# Altium integrated library NXP_60_26022015.IntLib: 1306 symbols (part 2 of 28)
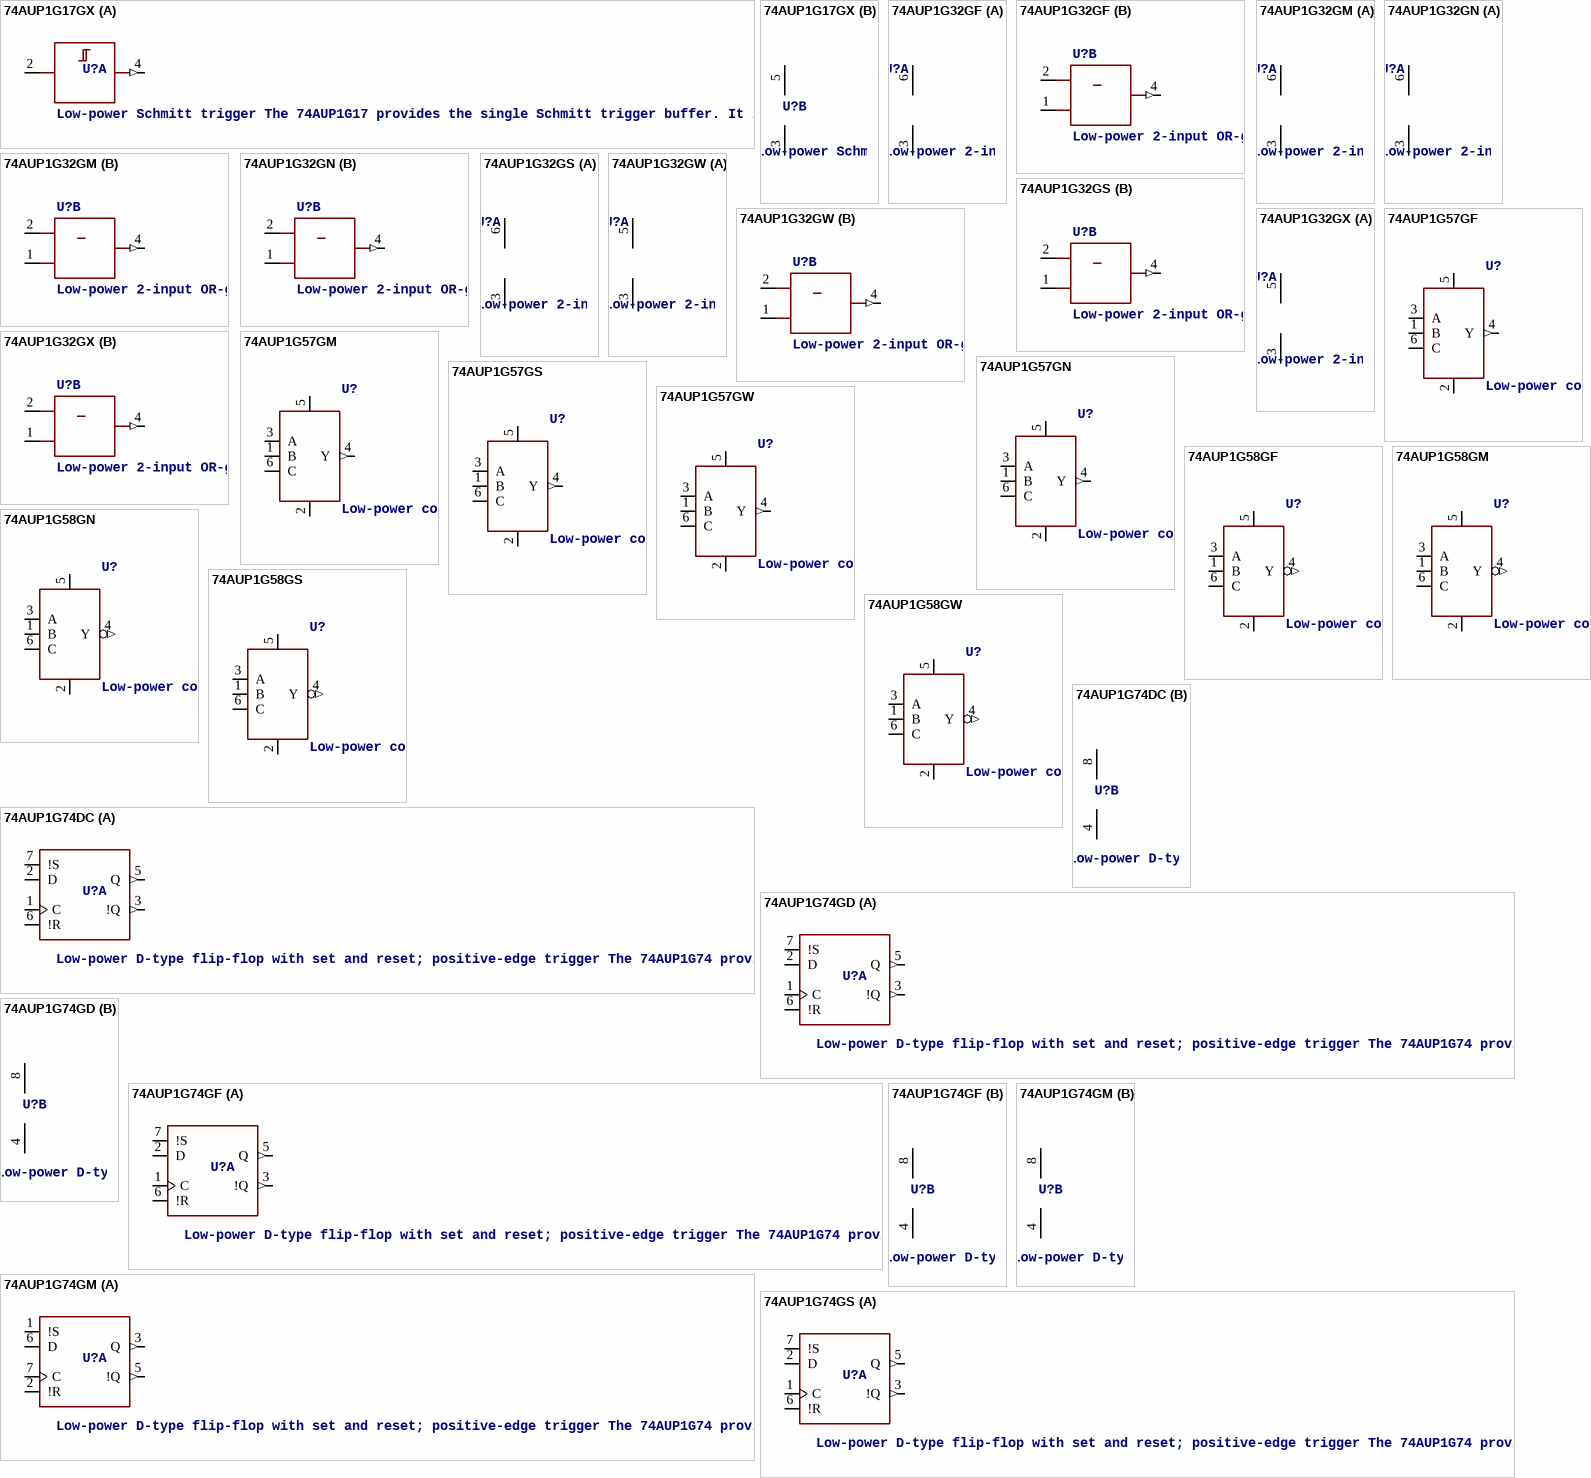
[diagram p186: symbols 74AUP1G17GX to 74AUP1G74GS]

## 74AUP1G57GW
designator U?, comment Low-power configurable gate The 74AUP1G57 provides configurable multiple functions. The output state is determined by eight patterns of 3-bit input. The user can choose the logic functions AND, OR, NAND, NOR, XNOR, inverter, and buffer. All inputs can be connected to VCC or GND. This device ensures a very low static and dynamic power consumption across the entire VCC range from 0.8 V to 3.6 V. This device is fully specified for partial power-down applications using IOFF. The IOFF circuitry disables the output, preventing the damaging backflow current through the device when it is powered down. The 74AUP1G57 has Schmitt trigger inputs making it capable of transforming slowly changing input signals into sharply defined, jitter-free output signals. The inputs switch at different points for positive and negative-going signals. The difference between the positive voltage VT+ and the negative voltage VT- is defined as the input hysteresis voltage VH.   AAL Eindhoven MK
12NC: 9352 799 57125
footprint SOT363
pins: 1 B, 2 GND (power), 3 A, 4 Y (out), 5 VCC (power), 6 C

## 74AUP1G58GF
designator U?, comment Low-power configurable multiple function gate The 74AUP1G58 provides configurable multiple functions. The output state is determined by eight patterns of 3-bit input. The user can choose the logic functions AND, OR, NAND, NOR, XOR, inverter and buffer. All inputs can be connected to VCC or GND. This device ensures a very low static and dynamic power consumption across the entire VCC range from 0.8 V to 3.6 V. This device is fully specified for partial power-down applications using IOFF. The IOFF circuitry disables the output, preventing the damaging backflow current through the device when it is powered down. The 74AUP1G58 has Schmitt trigger inputs making it capable of transforming slowly changing input signals into sharply defined, jitter-free output signals. The inputs switch at different points for positive and negative-going signals. The difference between the positive voltage VT+ and the negative voltage VT- is defined as the input hysteresis voltage VH.   AAL Eindhoven MK
12NC: 9352 813 29132
footprint SOT891
pins: 1 B, 2 GND (power), 3 A, 4 Y (out), 5 VCC (power), 6 C

## 74AUP1G58GM
designator U?, comment Low-power configurable multiple function gate The 74AUP1G58 provides configurable multiple functions. The output state is determined by eight patterns of 3-bit input. The user can choose the logic functions AND, OR, NAND, NOR, XOR, inverter and buffer. All inputs can be connected to VCC or GND. This device ensures a very low static and dynamic power consumption across the entire VCC range from 0.8 V to 3.6 V. This device is fully specified for partial power-down applications using IOFF. The IOFF circuitry disables the output, preventing the damaging backflow current through the device when it is powered down. The 74AUP1G58 has Schmitt trigger inputs making it capable of transforming slowly changing input signals into sharply defined, jitter-free output signals. The inputs switch at different points for positive and negative-going signals. The difference between the positive voltage VT+ and the negative voltage VT- is defined as the input hysteresis voltage VH.   AAL Eindhoven MK
12NC: 9352 799 61132
footprint SOT886
pins: 1 B, 2 GND (power), 3 A, 4 Y (out), 5 VCC (power), 6 C

## 74AUP1G58GN
designator U?, comment Low-power configurable multiple function gate The 74AUP1G58 provides configurable multiple functions. The output state is determined by eight patterns of 3-bit input. The user can choose the logic functions AND, OR, NAND, NOR, XOR, inverter and buffer. All inputs can be connected to VCC or GND. This device ensures a very low static and dynamic power consumption across the entire VCC range from 0.8 V to 3.6 V. This device is fully specified for partial power-down applications using IOFF. The IOFF circuitry disables the output, preventing the damaging backflow current through the device when it is powered down. The 74AUP1G58 has Schmitt trigger inputs making it capable of transforming slowly changing input signals into sharply defined, jitter-free output signals. The inputs switch at different points for positive and negative-going signals. The difference between the positive voltage VT+ and the negative voltage VT- is defined as the input hysteresis voltage VH.   AAL Eindhoven MK
I2C: 9352 917 44132
footprint SOT1115
pins: 1 B, 2 GND (power), 3 A, 4 Y (out), 5 VCC (power), 6 C

## 74AUP1G58GS
designator U?, comment Low-power configurable multiple function gate The 74AUP1G58 provides configurable multiple functions. The output state is determined by eight patterns of 3-bit input. The user can choose the logic functions AND, OR, NAND, NOR, XOR, inverter and buffer. All inputs can be connected to VCC or GND. This device ensures a very low static and dynamic power consumption across the entire VCC range from 0.8 V to 3.6 V. This device is fully specified for partial power-down applications using IOFF. The IOFF circuitry disables the output, preventing the damaging backflow current through the device when it is powered down. The 74AUP1G58 has Schmitt trigger inputs making it capable of transforming slowly changing input signals into sharply defined, jitter-free output signals. The inputs switch at different points for positive and negative-going signals. The difference between the positive voltage VT+ and the negative voltage VT- is defined as the input hysteresis voltage VH.   AAL Eindhoven MK
12NC: 9352 928 68132
footprint SOT1202
pins: 1 B, 2 GND (power), 3 A, 4 Y (out), 5 VCC (power), 6 C

## 74AUP1G58GW
designator U?, comment Low-power configurable multiple function gate The 74AUP1G58 provides configurable multiple functions. The output state is determined by eight patterns of 3-bit input. The user can choose the logic functions AND, OR, NAND, NOR, XOR, inverter and buffer. All inputs can be connected to VCC or GND. This device ensures a very low static and dynamic power consumption across the entire VCC range from 0.8 V to 3.6 V. This device is fully specified for partial power-down applications using IOFF. The IOFF circuitry disables the output, preventing the damaging backflow current through the device when it is powered down. The 74AUP1G58 has Schmitt trigger inputs making it capable of transforming slowly changing input signals into sharply defined, jitter-free output signals. The inputs switch at different points for positive and negative-going signals. The difference between the positive voltage VT+ and the negative voltage VT- is defined as the input hysteresis voltage VH.   AAL Eindhoven MK
12NC: 9352 799 59125
footprint SOT363
pins: 1 B, 2 GND (power), 3 A, 4 Y (out), 5 VCC (power), 6 C

## 74AUP1G74DC
designator U?, comment Low-power D-type flip-flop with set and reset; positive-edge trigger The 74AUP1G74 provides a low-power, low-voltage single positive-edge triggered D-type flip-flop with individual data (D), clock (CP), set (SD) and reset (RD) inputs and complementary Q and Q outputs. The SD and RD are asynchronous active LOW inputs and operate independently of the clock input. Information on the data input is transferred to the Q output on the LOW-to-HIGH transition of the clock pulse. The D input must be stable one set-up time prior to the LOW-to-HIGH clock transition for predictable operation. Schmitt trigger action at all inputs makes the circuit tolerant to slower input rise and fall times across the entire VCC range from 0.8 V to 3.6 V. This device ensures a very low static and dynamic power consumption across the entire VCC range from 0.8 V to 3.6 V. This device is fully specified for partial power-down applications using IOFF. The IOFF circuitry disables the output, preventing the damaging backflow current through the device when it is powered down.    AAL Eindhoven MK
footprint SOT765
part A pins: 1 C, 2 D, 3 !Q (out), 5 Q (out), 6 !R, 7 !S
part B pins: 4 GND (power), 8 VCC (power)

## 74AUP1G74GD
designator U?, comment Low-power D-type flip-flop with set and reset; positive-edge trigger The 74AUP1G74 provides a low-power, low-voltage single positive-edge triggered D-type flip-flop with individual data (D), clock (CP), set (SD) and reset (RD) inputs and complementary Q and Q outputs. The SD and RD are asynchronous active LOW inputs and operate independently of the clock input. Information on the data input is transferred to the Q output on the LOW-to-HIGH transition of the clock pulse. The D input must be stable one set-up time prior to the LOW-to-HIGH clock transition for predictable operation. Schmitt trigger action at all inputs makes the circuit tolerant to slower input rise and fall times across the entire VCC range from 0.8 V to 3.6 V. This device ensures a very low static and dynamic power consumption across the entire VCC range from 0.8 V to 3.6 V. This device is fully specified for partial power-down applications using IOFF. The IOFF circuitry disables the output, preventing the damaging backflow current through the device when it is powered down.    AAL Eindhoven MK
footprint SOT996-2/3
part A pins: 1 C, 2 D, 3 !Q (out), 5 Q (out), 6 !R, 7 !S
part B pins: 4 GND (power), 8 VCC (power)

## 74AUP1G74GF
designator U?, comment Low-power D-type flip-flop with set and reset; positive-edge trigger The 74AUP1G74 provides a low-power, low-voltage single positive-edge triggered D-type flip-flop with individual data (D), clock (CP), set (SD) and reset (RD) inputs and complementary Q and Q outputs. The SD and RD are asynchronous active LOW inputs and operate independently of the clock input. Information on the data input is transferred to the Q output on the LOW-to-HIGH transition of the clock pulse. The D input must be stable one set-up time prior to the LOW-to-HIGH clock transition for predictable operation. Schmitt trigger action at all inputs makes the circuit tolerant to slower input rise and fall times across the entire VCC range from 0.8 V to 3.6 V. This device ensures a very low static and dynamic power consumption across the entire VCC range from 0.8 V to 3.6 V. This device is fully specified for partial power-down applications using IOFF. The IOFF circuitry disables the output, preventing the damaging backflow current through the device when it is powered down.    AAL Eindhoven MK
footprint SOT1089-1
part A pins: 1 C, 2 D, 3 !Q (out), 5 Q (out), 6 !R, 7 !S
part B pins: 4 GND (power), 8 VCC (power)

## 74AUP1G74GM
designator U?, comment Low-power D-type flip-flop with set and reset; positive-edge trigger The 74AUP1G74 provides a low-power, low-voltage single positive-edge triggered D-type flip-flop with individual data (D), clock (CP), set (SD) and reset (RD) inputs and complementary Q and Q outputs. The SD and RD are asynchronous active LOW inputs and operate independently of the clock input. Information on the data input is transferred to the Q output on the LOW-to-HIGH transition of the clock pulse. The D input must be stable one set-up time prior to the LOW-to-HIGH clock transition for predictable operation. Schmitt trigger action at all inputs makes the circuit tolerant to slower input rise and fall times across the entire VCC range from 0.8 V to 3.6 V. This device ensures a very low static and dynamic power consumption across the entire VCC range from 0.8 V to 3.6 V. This device is fully specified for partial power-down applications using IOFF. The IOFF circuitry disables the output, preventing the damaging backflow current through the device when it is powered down.    AAL Eindhoven MK
footprint SOT902-1/2/3
part A pins: 1 !S, 2 !R, 3 Q (out), 5 !Q (out), 6 D, 7 C
part B pins: 4 GND (power), 8 VCC (power)

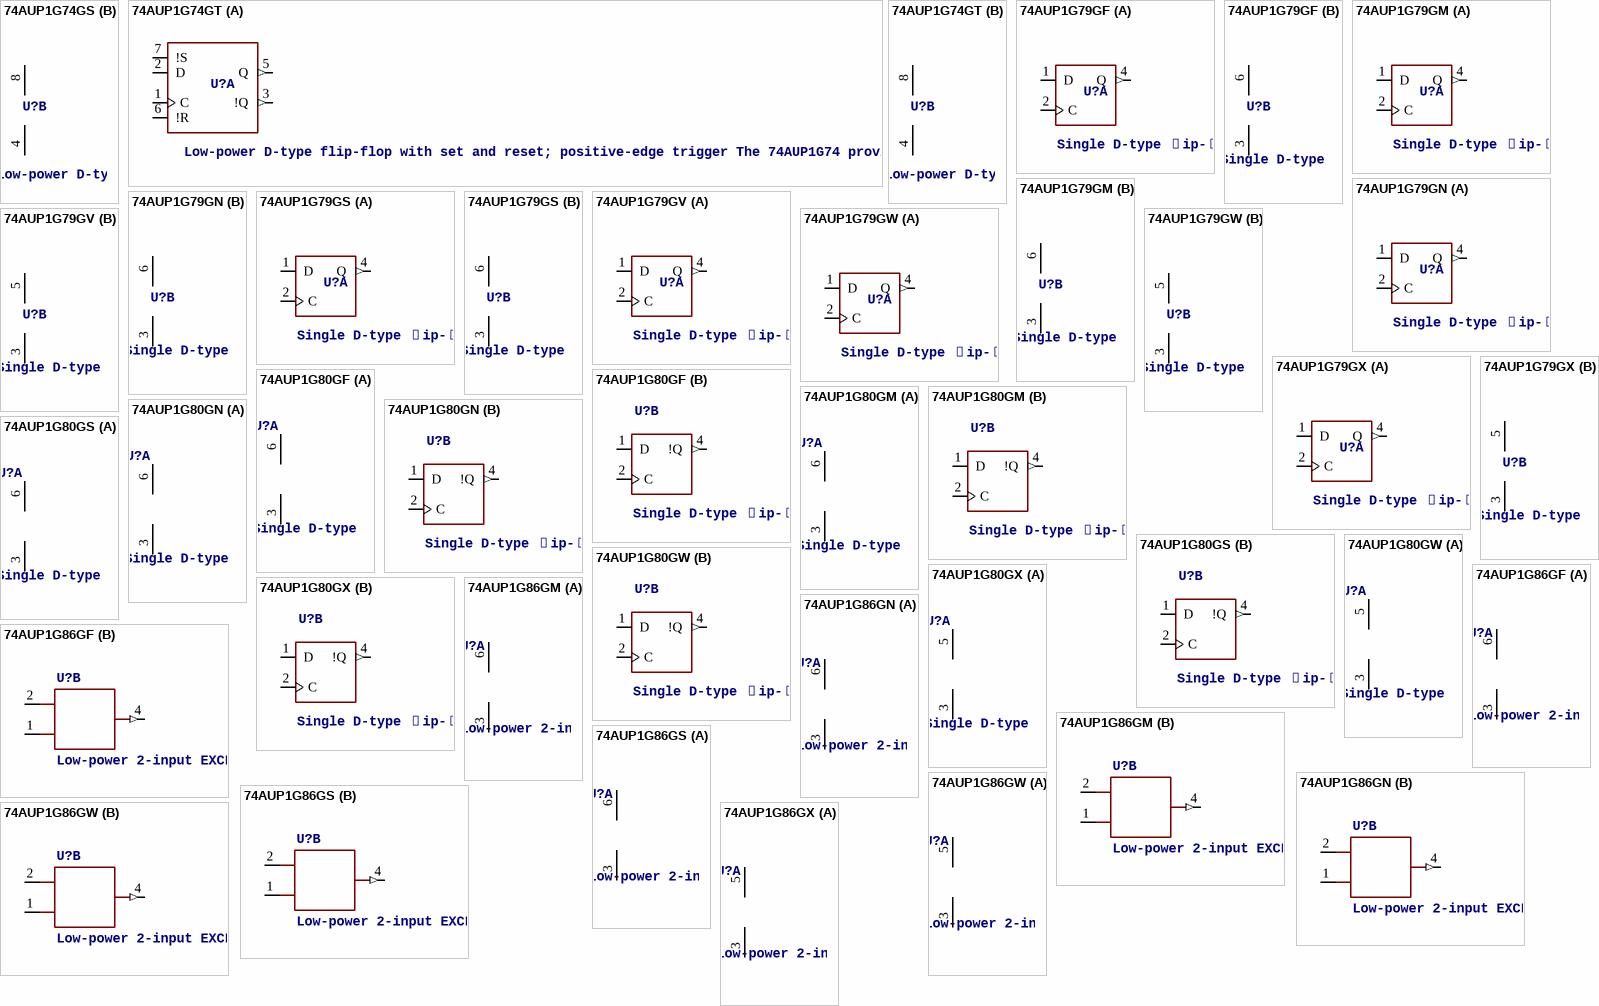
[diagram p7: symbols 74AUP1G74GS to 74AUP1G86GX]

## 74AUP1G74GS
designator U?, comment Low-power D-type flip-flop with set and reset; positive-edge trigger The 74AUP1G74 provides a low-power, low-voltage single positive-edge triggered D-type flip-flop with individual data (D), clock (CP), set (SD) and reset (RD) inputs and complementary Q and Q outputs. The SD and RD are asynchronous active LOW inputs and operate independently of the clock input. Information on the data input is transferred to the Q output on the LOW-to-HIGH transition of the clock pulse. The D input must be stable one set-up time prior to the LOW-to-HIGH clock transition for predictable operation. Schmitt trigger action at all inputs makes the circuit tolerant to slower input rise and fall times across the entire VCC range from 0.8 V to 3.6 V. This device ensures a very low static and dynamic power consumption across the entire VCC range from 0.8 V to 3.6 V. This device is fully specified for partial power-down applications using IOFF. The IOFF circuitry disables the output, preventing the damaging backflow current through the device when it is powered down.    AAL Eindhoven MK
footprint SOT1203
part A pins: 1 C, 2 D, 3 !Q (out), 5 Q (out), 6 !R, 7 !S
part B pins: 4 GND (power), 8 VCC (power)

## 74AUP1G74GT
designator U?, comment Low-power D-type flip-flop with set and reset; positive-edge trigger The 74AUP1G74 provides a low-power, low-voltage single positive-edge triggered D-type flip-flop with individual data (D), clock (CP), set (SD) and reset (RD) inputs and complementary Q and Q outputs. The SD and RD are asynchronous active LOW inputs and operate independently of the clock input. Information on the data input is transferred to the Q output on the LOW-to-HIGH transition of the clock pulse. The D input must be stable one set-up time prior to the LOW-to-HIGH clock transition for predictable operation. Schmitt trigger action at all inputs makes the circuit tolerant to slower input rise and fall times across the entire VCC range from 0.8 V to 3.6 V. This device ensures a very low static and dynamic power consumption across the entire VCC range from 0.8 V to 3.6 V. This device is fully specified for partial power-down applications using IOFF. The IOFF circuitry disables the output, preventing the damaging backflow current through the device when it is powered down.    AAL Eindhoven MK
footprint SOT833-1
part A pins: 1 C, 2 D, 3 !Q (out), 5 Q (out), 6 !R, 7 !S
part B pins: 4 GND (power), 8 VCC (power)

## 74AUP1G79GF
designator U?, comment Single D-type ﬂip-ﬂop; positive-edge trigger The 74AUP1G79 provides the single positive-edge triggered D-type flip-flop. Information on the data input is transferred to the Q output on the LOW-to-HIGH transition of the clock pulse. The D input must be stable one setup time prior to the LOW-to-HIGH clock transition for predictable operation. Schmitt trigger action at all inputs makes the circuit tolerant to slower input rise and fall times across the entire VCC range from 0.8 V to 3.6 V. This device ensures a very low static and dynamic power consumption across the entire VCC range from 0.8 V to 3.6 V. This device is fully specified for partial power-down applications using IOFF. The IOFF circuitry disables the output, preventing the damaging backflow current through the device when it is powered down    AAL Eindhoven MK
footprint SOT891
part A pins: 1 D, 2 C, 4 Q (out)
part B pins: 3 GND (power), 6 VCC (power)

## 74AUP1G79GM
designator U?, comment Single D-type ﬂip-ﬂop; positive-edge trigger The 74AUP1G79 provides the single positive-edge triggered D-type flip-flop. Information on the data input is transferred to the Q output on the LOW-to-HIGH transition of the clock pulse. The D input must be stable one setup time prior to the LOW-to-HIGH clock transition for predictable operation. Schmitt trigger action at all inputs makes the circuit tolerant to slower input rise and fall times across the entire VCC range from 0.8 V to 3.6 V. This device ensures a very low static and dynamic power consumption across the entire VCC range from 0.8 V to 3.6 V. This device is fully specified for partial power-down applications using IOFF. The IOFF circuitry disables the output, preventing the damaging backflow current through the device when it is powered down    AAL Eindhoven MK
footprint SOT886
part A pins: 1 D, 2 C, 4 Q (out)
part B pins: 3 GND (power), 6 VCC (power)

## 74AUP1G79GN
designator U?, comment Single D-type ﬂip-ﬂop; positive-edge trigger The 74AUP1G79 provides the single positive-edge triggered D-type flip-flop. Information on the data input is transferred to the Q output on the LOW-to-HIGH transition of the clock pulse. The D input must be stable one setup time prior to the LOW-to-HIGH clock transition for predictable operation. Schmitt trigger action at all inputs makes the circuit tolerant to slower input rise and fall times across the entire VCC range from 0.8 V to 3.6 V. This device ensures a very low static and dynamic power consumption across the entire VCC range from 0.8 V to 3.6 V. This device is fully specified for partial power-down applications using IOFF. The IOFF circuitry disables the output, preventing the damaging backflow current through the device when it is powered down    AAL Eindhoven MK
footprint SOT1115
part A pins: 1 D, 2 C, 4 Q (out)
part B pins: 3 GND (power), 6 VCC (power)

## 74AUP1G79GS
designator U?, comment Single D-type ﬂip-ﬂop; positive-edge trigger The 74AUP1G79 provides the single positive-edge triggered D-type flip-flop. Information on the data input is transferred to the Q output on the LOW-to-HIGH transition of the clock pulse. The D input must be stable one setup time prior to the LOW-to-HIGH clock transition for predictable operation. Schmitt trigger action at all inputs makes the circuit tolerant to slower input rise and fall times across the entire VCC range from 0.8 V to 3.6 V. This device ensures a very low static and dynamic power consumption across the entire VCC range from 0.8 V to 3.6 V. This device is fully specified for partial power-down applications using IOFF. The IOFF circuitry disables the output, preventing the damaging backflow current through the device when it is powered down    AAL Eindhoven MK
footprint SOT1202
part A pins: 1 D, 2 C, 4 Q (out)
part B pins: 3 GND (power), 6 VCC (power)

## 74AUP1G79GV
designator U?, comment Single D-type ﬂip-ﬂop; positive-edge trigger The 74AUP1G79 provides the single positive-edge triggered D-type flip-flop. Information on the data input is transferred to the Q output on the LOW-to-HIGH transition of the clock pulse. The D input must be stable one setup time prior to the LOW-to-HIGH clock transition for predictable operation. Schmitt trigger action at all inputs makes the circuit tolerant to slower input rise and fall times across the entire VCC range from 0.8 V to 3.6 V. This device ensures a very low static and dynamic power consumption across the entire VCC range from 0.8 V to 3.6 V. This device is fully specified for partial power-down applications using IOFF. The IOFF circuitry disables the output, preventing the damaging backflow current through the device when it is powered down    AAL Eindhoven MK
footprint SOT753
part A pins: 1 D, 2 C, 4 Q (out)
part B pins: 3 GND (power), 5 VCC (power)

## 74AUP1G79GW
designator U?, comment Single D-type ﬂip-ﬂop; positive-edge trigger The 74AUP1G79 provides the single positive-edge triggered D-type flip-flop. Information on the data input is transferred to the Q output on the LOW-to-HIGH transition of the clock pulse. The D input must be stable one setup time prior to the LOW-to-HIGH clock transition for predictable operation. Schmitt trigger action at all inputs makes the circuit tolerant to slower input rise and fall times across the entire VCC range from 0.8 V to 3.6 V. This device ensures a very low static and dynamic power consumption across the entire VCC range from 0.8 V to 3.6 V. This device is fully specified for partial power-down applications using IOFF. The IOFF circuitry disables the output, preventing the damaging backflow current through the device when it is powered down    AAL Eindhoven MK
footprint SOT353-1
part A pins: 1 D, 2 C, 4 Q (out)
part B pins: 3 GND (power), 5 VCC (power)

## 74AUP1G79GX
designator U?, comment Single D-type ﬂip-ﬂop; positive-edge trigger The 74AUP1G79 provides the single positive-edge triggered D-type flip-flop. Information on the data input is transferred to the Q output on the LOW-to-HIGH transition of the clock pulse. The D input must be stable one setup time prior to the LOW-to-HIGH clock transition for predictable operation. Schmitt trigger action at all inputs makes the circuit tolerant to slower input rise and fall times across the entire VCC range from 0.8 V to 3.6 V. This device ensures a very low static and dynamic power consumption across the entire VCC range from 0.8 V to 3.6 V. This device is fully specified for partial power-down applications using IOFF. The IOFF circuitry disables the output, preventing the damaging backflow current through the device when it is powered down    AAL Eindhoven MK
footprint SOT1226
part A pins: 1 D, 2 C, 4 Q (out)
part B pins: 3 GND (power), 5 VCC (power)

## 74AUP1G80GF
designator U?, comment Single D-type ﬂip-ﬂop; positive-edge trigger The 74AUP1G80 provides the single positive-edge triggered D-type flip-flop. Information on the data input is transferred to the Q output on the LOW-to-HIGH transition of the clock pulse. The input pin D must be stable one set-up time prior to the LOW-to-HIGH clock transition for predictable operation. Schmitt trigger action at all inputs makes the circuit tolerant to slower input rise and fall times across the entire VCC range from 0.8 V to 3.6 V. This device ensures a very low static and dynamic power consumption across the entire VCC range from 0.8 V to 3.6 V. This device is fully specified for partial power-down applications using IOFF. The IOFF circuitry disables the output, preventing the damaging backflow current through the device when it is powered down.    AAL Eindhoven MK
footprint SOT891
part A pins: 3 GND (power), 6 VCC (power)
part B pins: 1 D, 2 C, 4 !Q (out)

## 74AUP1G80GM
designator U?, comment Single D-type ﬂip-ﬂop; positive-edge trigger The 74AUP1G80 provides the single positive-edge triggered D-type flip-flop. Information on the data input is transferred to the Q output on the LOW-to-HIGH transition of the clock pulse. The input pin D must be stable one set-up time prior to the LOW-to-HIGH clock transition for predictable operation. Schmitt trigger action at all inputs makes the circuit tolerant to slower input rise and fall times across the entire VCC range from 0.8 V to 3.6 V. This device ensures a very low static and dynamic power consumption across the entire VCC range from 0.8 V to 3.6 V. This device is fully specified for partial power-down applications using IOFF. The IOFF circuitry disables the output, preventing the damaging backflow current through the device when it is powered down.    AAL Eindhoven MK
footprint SOT886
part A pins: 3 GND (power), 6 VCC (power)
part B pins: 1 D, 2 C, 4 !Q (out)

## 74AUP1G80GN
designator U?, comment Single D-type ﬂip-ﬂop; positive-edge trigger The 74AUP1G80 provides the single positive-edge triggered D-type flip-flop. Information on the data input is transferred to the Q output on the LOW-to-HIGH transition of the clock pulse. The input pin D must be stable one set-up time prior to the LOW-to-HIGH clock transition for predictable operation. Schmitt trigger action at all inputs makes the circuit tolerant to slower input rise and fall times across the entire VCC range from 0.8 V to 3.6 V. This device ensures a very low static and dynamic power consumption across the entire VCC range from 0.8 V to 3.6 V. This device is fully specified for partial power-down applications using IOFF. The IOFF circuitry disables the output, preventing the damaging backflow current through the device when it is powered down.    AAL Eindhoven MK
footprint SOT1115
part A pins: 3 GND (power), 6 VCC (power)
part B pins: 1 D, 2 C, 4 !Q (out)

## 74AUP1G80GS
designator U?, comment Single D-type ﬂip-ﬂop; positive-edge trigger The 74AUP1G80 provides the single positive-edge triggered D-type flip-flop. Information on the data input is transferred to the Q output on the LOW-to-HIGH transition of the clock pulse. The input pin D must be stable one set-up time prior to the LOW-to-HIGH clock transition for predictable operation. Schmitt trigger action at all inputs makes the circuit tolerant to slower input rise and fall times across the entire VCC range from 0.8 V to 3.6 V. This device ensures a very low static and dynamic power consumption across the entire VCC range from 0.8 V to 3.6 V. This device is fully specified for partial power-down applications using IOFF. The IOFF circuitry disables the output, preventing the damaging backflow current through the device when it is powered down.    AAL Eindhoven MK
footprint SOT1202
part A pins: 3 GND (power), 6 VCC (power)
part B pins: 1 D, 2 C, 4 !Q (out)

## 74AUP1G80GW
designator U?, comment Single D-type ﬂip-ﬂop; positive-edge trigger The 74AUP1G80 provides the single positive-edge triggered D-type flip-flop. Information on the data input is transferred to the Q output on the LOW-to-HIGH transition of the clock pulse. The input pin D must be stable one set-up time prior to the LOW-to-HIGH clock transition for predictable operation. Schmitt trigger action at all inputs makes the circuit tolerant to slower input rise and fall times across the entire VCC range from 0.8 V to 3.6 V. This device ensures a very low static and dynamic power consumption across the entire VCC range from 0.8 V to 3.6 V. This device is fully specified for partial power-down applications using IOFF. The IOFF circuitry disables the output, preventing the damaging backflow current through the device when it is powered down.    AAL Eindhoven MK
footprint SOT353-1
part A pins: 3 GND (power), 5 VCC (power)
part B pins: 1 D, 2 C, 4 !Q (out)

## 74AUP1G80GX
designator U?, comment Single D-type ﬂip-ﬂop; positive-edge trigger The 74AUP1G80 provides the single positive-edge triggered D-type flip-flop. Information on the data input is transferred to the Q output on the LOW-to-HIGH transition of the clock pulse. The input pin D must be stable one set-up time prior to the LOW-to-HIGH clock transition for predictable operation. Schmitt trigger action at all inputs makes the circuit tolerant to slower input rise and fall times across the entire VCC range from 0.8 V to 3.6 V. This device ensures a very low static and dynamic power consumption across the entire VCC range from 0.8 V to 3.6 V. This device is fully specified for partial power-down applications using IOFF. The IOFF circuitry disables the output, preventing the damaging backflow current through the device when it is powered down.    AAL Eindhoven MK
footprint SOT1226
part A pins: 3 GND (power), 5 VCC (power)
part B pins: 1 D, 2 C, 4 !Q (out)

## 74AUP1G86GF
designator U?, comment Low-power 2-input EXCLUSIVE-OR gate The 74AUP1G86 provides the single 2-input EXCLUSIVE-OR function. Schmitt-trigger action at all inputs makes the circuit tolerant to slower input rise and fall times across the entire VCC range from 0.8 V to 3.6 V. This device ensures a very low static and dynamic power consumption across the entire VCC range from 0.8 V to 3.6 V. This device is fully specified for partial power-down applications using IOFF. The IOFF circuitry disables the output, preventing the damaging backflow current through the device when it is powered down.    AAL Eindhoven MK
footprint SOT891
part A pins: 3 GND (power), 6 VCC (power)
part B pins: 1 B, 2 A, 4 Y (out)

## 74AUP1G86GM
designator U?, comment Low-power 2-input EXCLUSIVE-OR gate The 74AUP1G86 provides the single 2-input EXCLUSIVE-OR function. Schmitt-trigger action at all inputs makes the circuit tolerant to slower input rise and fall times across the entire VCC range from 0.8 V to 3.6 V. This device ensures a very low static and dynamic power consumption across the entire VCC range from 0.8 V to 3.6 V. This device is fully specified for partial power-down applications using IOFF. The IOFF circuitry disables the output, preventing the damaging backflow current through the device when it is powered down.    AAL Eindhoven MK
footprint SOT886
part A pins: 3 GND (power), 6 VCC (power)
part B pins: 1 B, 2 A, 4 Y (out)

## 74AUP1G86GN
designator U?, comment Low-power 2-input EXCLUSIVE-OR gate The 74AUP1G86 provides the single 2-input EXCLUSIVE-OR function. Schmitt-trigger action at all inputs makes the circuit tolerant to slower input rise and fall times across the entire VCC range from 0.8 V to 3.6 V. This device ensures a very low static and dynamic power consumption across the entire VCC range from 0.8 V to 3.6 V. This device is fully specified for partial power-down applications using IOFF. The IOFF circuitry disables the output, preventing the damaging backflow current through the device when it is powered down.    AAL Eindhoven MK
footprint SOT1115
part A pins: 3 GND (power), 6 VCC (power)
part B pins: 1 B, 2 A, 4 Y (out)

## 74AUP1G86GS
designator U?, comment Low-power 2-input EXCLUSIVE-OR gate The 74AUP1G86 provides the single 2-input EXCLUSIVE-OR function. Schmitt-trigger action at all inputs makes the circuit tolerant to slower input rise and fall times across the entire VCC range from 0.8 V to 3.6 V. This device ensures a very low static and dynamic power consumption across the entire VCC range from 0.8 V to 3.6 V. This device is fully specified for partial power-down applications using IOFF. The IOFF circuitry disables the output, preventing the damaging backflow current through the device when it is powered down.    AAL Eindhoven MK
footprint SOT1202
part A pins: 3 GND (power), 6 VCC (power)
part B pins: 1 B, 2 A, 4 Y (out)

## 74AUP1G86GW
designator U?, comment Low-power 2-input EXCLUSIVE-OR gate The 74AUP1G86 provides the single 2-input EXCLUSIVE-OR function. Schmitt-trigger action at all inputs makes the circuit tolerant to slower input rise and fall times across the entire VCC range from 0.8 V to 3.6 V. This device ensures a very low static and dynamic power consumption across the entire VCC range from 0.8 V to 3.6 V. This device is fully specified for partial power-down applications using IOFF. The IOFF circuitry disables the output, preventing the damaging backflow current through the device when it is powered down.    AAL Eindhoven MK
footprint SOT353-1
part A pins: 3 GND (power), 5 VCC (power)
part B pins: 1 B, 2 A, 4 Y (out)

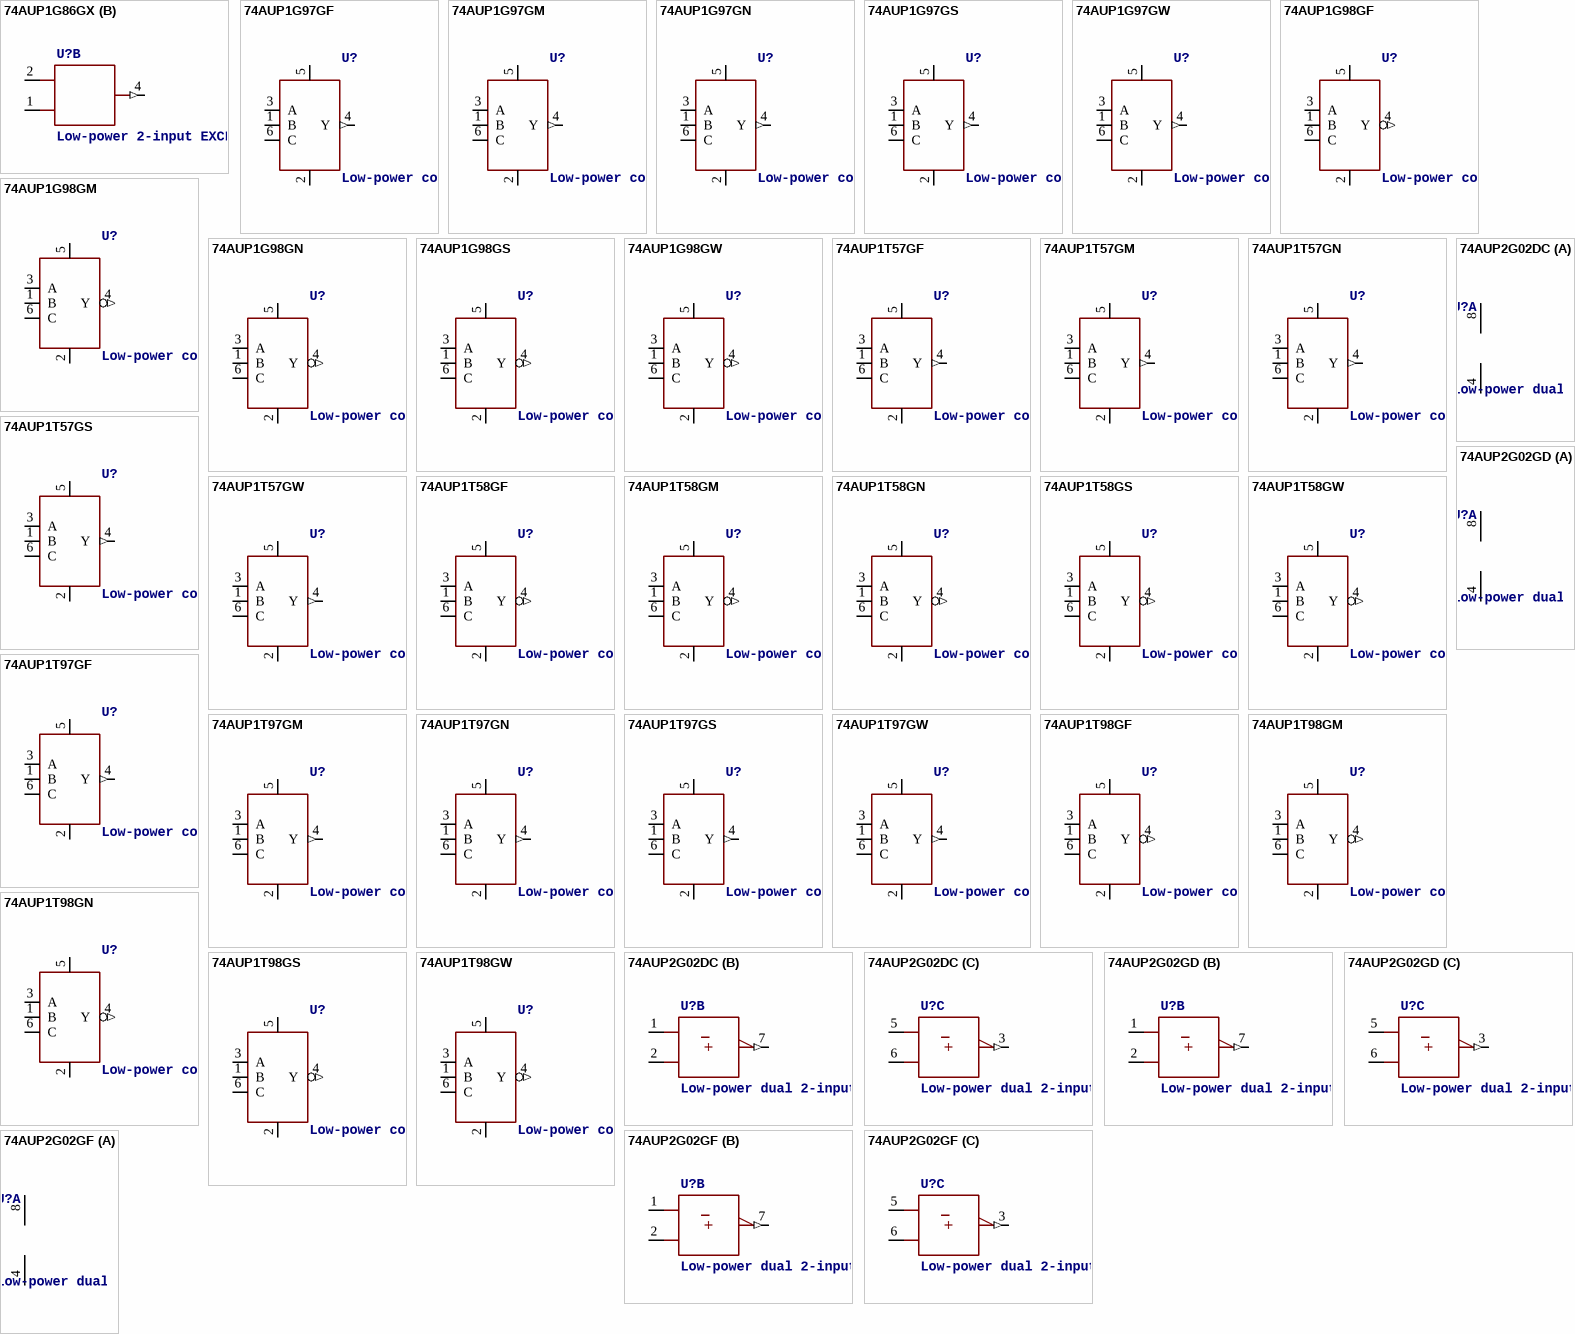
[diagram p8: symbols 74AUP1G86GX to 74AUP2G02GF]

## 74AUP1G86GX
designator U?, comment Low-power 2-input EXCLUSIVE-OR gate The 74AUP1G86 provides the single 2-input EXCLUSIVE-OR function. Schmitt-trigger action at all inputs makes the circuit tolerant to slower input rise and fall times across the entire VCC range from 0.8 V to 3.6 V. This device ensures a very low static and dynamic power consumption across the entire VCC range from 0.8 V to 3.6 V. This device is fully specified for partial power-down applications using IOFF. The IOFF circuitry disables the output, preventing the damaging backflow current through the device when it is powered down.    AAL Eindhoven MK
footprint SOT1226
part A pins: 3 GND (power), 5 VCC (power)
part B pins: 1 B, 2 A, 4 Y (out)

## 74AUP1G97GF
designator U?, comment Low-power configurable gate The 74AUP1G97 provides configurable multiple functions. The output state is determined by eight patterns of 3-bit input. The user can choose the logic functions MUX, AND, OR, NAND, NOR, inverter and buffer. All inputs can be connected to VCC or GND. This device ensures a very low static and dynamic power consumption across the entire VCC range from 0.8 V to 3.6 V. This device is fully specified for partial power-down applications using IOFF. The IOFF circuitry disables the output, preventing the damaging backflow current through the device when it is powered down. The 74AUP1G97 has Schmitt trigger inputs making it capable of transforming slowly changing input signals into sharply defined, jitter-free output signals. The inputs switch at different points for positive and negative-going signals. The difference between the positive voltage VT+ and the negative voltage VT is defined as the input hysteresis voltage VH.   AAL Eindhoven MK
12NC: 9352 813 35132
footprint SOT891
pins: 1 B, 2 GND (power), 3 A, 4 Y (out), 5 VCC (power), 6 C

## 74AUP1G97GM
designator U?, comment Low-power configurable gate The 74AUP1G97 provides configurable multiple functions. The output state is determined by eight patterns of 3-bit input. The user can choose the logic functions MUX, AND, OR, NAND, NOR, inverter and buffer. All inputs can be connected to VCC or GND. This device ensures a very low static and dynamic power consumption across the entire VCC range from 0.8 V to 3.6 V. This device is fully specified for partial power-down applications using IOFF. The IOFF circuitry disables the output, preventing the damaging backflow current through the device when it is powered down. The 74AUP1G97 has Schmitt trigger inputs making it capable of transforming slowly changing input signals into sharply defined, jitter-free output signals. The inputs switch at different points for positive and negative-going signals. The difference between the positive voltage VT+ and the negative voltage VT is defined as the input hysteresis voltage VH.   AAL Eindhoven MK
12NC: 9352 799 63115
footprint SOT886
pins: 1 B, 2 GND (power), 3 A, 4 Y (out), 5 VCC (power), 6 C

## 74AUP1G97GN
designator U?, comment Low-power configurable gate The 74AUP1G97 provides configurable multiple functions. The output state is determined by eight patterns of 3-bit input. The user can choose the logic functions MUX, AND, OR, NAND, NOR, inverter and buffer. All inputs can be connected to VCC or GND. This device ensures a very low static and dynamic power consumption across the entire VCC range from 0.8 V to 3.6 V. This device is fully specified for partial power-down applications using IOFF. The IOFF circuitry disables the output, preventing the damaging backflow current through the device when it is powered down. The 74AUP1G97 has Schmitt trigger inputs making it capable of transforming slowly changing input signals into sharply defined, jitter-free output signals. The inputs switch at different points for positive and negative-going signals. The difference between the positive voltage VT+ and the negative voltage VT is defined as the input hysteresis voltage VH.   AAL Eindhoven MK
I2C: 9352 917 48132
footprint SOT1115
pins: 1 B, 2 GND (power), 3 A, 4 Y (out), 5 VCC (power), 6 C

## 74AUP1G97GS
designator U?, comment Low-power configurable gate The 74AUP1G97 provides configurable multiple functions. The output state is determined by eight patterns of 3-bit input. The user can choose the logic functions MUX, AND, OR, NAND, NOR, inverter and buffer. All inputs can be connected to VCC or GND. This device ensures a very low static and dynamic power consumption across the entire VCC range from 0.8 V to 3.6 V. This device is fully specified for partial power-down applications using IOFF. The IOFF circuitry disables the output, preventing the damaging backflow current through the device when it is powered down. The 74AUP1G97 has Schmitt trigger inputs making it capable of transforming slowly changing input signals into sharply defined, jitter-free output signals. The inputs switch at different points for positive and negative-going signals. The difference between the positive voltage VT+ and the negative voltage VT is defined as the input hysteresis voltage VH.   AAL Eindhoven MK
12NC: 9352 928 73132
footprint SOT1202
pins: 1 B, 2 GND (power), 3 A, 4 Y (out), 5 VCC (power), 6 C

## 74AUP1G97GW
designator U?, comment Low-power configurable gate The 74AUP1G97 provides configurable multiple functions. The output state is determined by eight patterns of 3-bit input. The user can choose the logic functions MUX, AND, OR, NAND, NOR, inverter and buffer. All inputs can be connected to VCC or GND. This device ensures a very low static and dynamic power consumption across the entire VCC range from 0.8 V to 3.6 V. This device is fully specified for partial power-down applications using IOFF. The IOFF circuitry disables the output, preventing the damaging backflow current through the device when it is powered down. The 74AUP1G97 has Schmitt trigger inputs making it capable of transforming slowly changing input signals into sharply defined, jitter-free output signals. The inputs switch at different points for positive and negative-going signals. The difference between the positive voltage VT+ and the negative voltage VT is defined as the input hysteresis voltage VH.   AAL Eindhoven MK
12NC: 9352 799 62125
footprint SOT363
pins: 1 B, 2 GND (power), 3 A, 4 Y (out), 5 VCC (power), 6 C

## 74AUP1G98GF
designator U?, comment Low-power configurable gate The 74AUP1G98 provides configurable multiple functions. The output state is determined by eight patterns of 3-bit input. The user can choose the logic functions MUX, AND, OR, NAND, NOR, inverter and buffer. All inputs can be connected to VCC or GND. This device ensures a very low static and dynamic power consumption across the entire VCC range from 0.8 V to 3.6 V. This device is fully specified for partial power-down applications using IOFF. The IOFF circuitry disables the output, preventing the damaging backflow current through the device when it is powered down. The 74AUP1G98 has Schmitt trigger inputs making it capable of transforming slowly changing input signals into sharply defined, jitter-free output signals. The inputs switch at different points for positive and negative-going signals. The difference between the positive voltage VT+ and the negative voltage VT is defined as the input hysteresis voltage VH.   AAL Eindhoven MK
12NC: 9352 813 36132
footprint SOT891
pins: 1 B, 2 GND (power), 3 A, 4 Y (out), 5 VCC (power), 6 C

## 74AUP1G98GM
designator U?, comment Low-power configurable gate The 74AUP1G98 provides configurable multiple functions. The output state is determined by eight patterns of 3-bit input. The user can choose the logic functions MUX, AND, OR, NAND, NOR, inverter and buffer. All inputs can be connected to VCC or GND. This device ensures a very low static and dynamic power consumption across the entire VCC range from 0.8 V to 3.6 V. This device is fully specified for partial power-down applications using IOFF. The IOFF circuitry disables the output, preventing the damaging backflow current through the device when it is powered down. The 74AUP1G98 has Schmitt trigger inputs making it capable of transforming slowly changing input signals into sharply defined, jitter-free output signals. The inputs switch at different points for positive and negative-going signals. The difference between the positive voltage VT+ and the negative voltage VT is defined as the input hysteresis voltage VH.   AAL Eindhoven MK
12NC: 9352 799 65115
footprint SOT886
pins: 1 B, 2 GND (power), 3 A, 4 Y (out), 5 VCC (power), 6 C

## 74AUP1G98GN
designator U?, comment Low-power configurable gate The 74AUP1G98 provides configurable multiple functions. The output state is determined by eight patterns of 3-bit input. The user can choose the logic functions MUX, AND, OR, NAND, NOR, inverter and buffer. All inputs can be connected to VCC or GND. This device ensures a very low static and dynamic power consumption across the entire VCC range from 0.8 V to 3.6 V. This device is fully specified for partial power-down applications using IOFF. The IOFF circuitry disables the output, preventing the damaging backflow current through the device when it is powered down. The 74AUP1G98 has Schmitt trigger inputs making it capable of transforming slowly changing input signals into sharply defined, jitter-free output signals. The inputs switch at different points for positive and negative-going signals. The difference between the positive voltage VT+ and the negative voltage VT is defined as the input hysteresis voltage VH.   AAL Eindhoven MK
I2C: 9352 917 49132
footprint SOT1115
pins: 1 B, 2 GND (power), 3 A, 4 Y (out), 5 VCC (power), 6 C

## 74AUP1G98GS
designator U?, comment Low-power configurable gate The 74AUP1G98 provides configurable multiple functions. The output state is determined by eight patterns of 3-bit input. The user can choose the logic functions MUX, AND, OR, NAND, NOR, inverter and buffer. All inputs can be connected to VCC or GND. This device ensures a very low static and dynamic power consumption across the entire VCC range from 0.8 V to 3.6 V. This device is fully specified for partial power-down applications using IOFF. The IOFF circuitry disables the output, preventing the damaging backflow current through the device when it is powered down. The 74AUP1G98 has Schmitt trigger inputs making it capable of transforming slowly changing input signals into sharply defined, jitter-free output signals. The inputs switch at different points for positive and negative-going signals. The difference between the positive voltage VT+ and the negative voltage VT is defined as the input hysteresis voltage VH.   AAL Eindhoven MK
12NC: 9352 928 74132
footprint SOT1202
pins: 1 B, 2 GND (power), 3 A, 4 Y (out), 5 VCC (power), 6 C

## 74AUP1G98GW
designator U?, comment Low-power configurable gate The 74AUP1G98 provides configurable multiple functions. The output state is determined by eight patterns of 3-bit input. The user can choose the logic functions MUX, AND, OR, NAND, NOR, inverter and buffer. All inputs can be connected to VCC or GND. This device ensures a very low static and dynamic power consumption across the entire VCC range from 0.8 V to 3.6 V. This device is fully specified for partial power-down applications using IOFF. The IOFF circuitry disables the output, preventing the damaging backflow current through the device when it is powered down. The 74AUP1G98 has Schmitt trigger inputs making it capable of transforming slowly changing input signals into sharply defined, jitter-free output signals. The inputs switch at different points for positive and negative-going signals. The difference between the positive voltage VT+ and the negative voltage VT is defined as the input hysteresis voltage VH.   AAL Eindhoven MK
12NC: 9352 799 64125
footprint SOT363
pins: 1 B, 2 GND (power), 3 A, 4 Y (out), 5 VCC (power), 6 C

## 74AUP1T57GF
designator U?, comment Low-power configurable gate with voltage-level translator The 74AUP1T57 provides low-power, low-voltage configurable logic gate functions. The output state is determined by eight patterns of 3-bit input. The user can choose the logic functions AND, OR, NAND, NOR, XNOR, inverter and buffer. All inputs can be connected to VCC or GND. This device ensures a very low static and dynamic power consumption across the entire VCC range from 2.3 V to 3.6 V. The 74AUP1T57 is designed for logic-level translation applications with input switching levels that accept 1.8 V low-voltage CMOS signals, while operating from either a single 2.5 V or 3.3 V supply voltage. The wide supply voltage range ensures normal operation as battery voltage drops from 3.6 V to 2.3 V. This device is fully specified for partial power-down applications using IOFF. The IOFF circuitry disables the output, preventing the damaging backflow current through the device when it is powered down. Schmitt trigger inputs make the circuit tolerant to slower input rise and fall times across the entire VCC range.   AAL Eindhoven MK
12NC: 9352 813 64132
footprint SOT891
pins: 1 B, 2 GND (power), 3 A, 4 Y (out), 5 VCC (power), 6 C

## 74AUP1T57GM
designator U?, comment Low-power configurable gate with voltage-level translator The 74AUP1T57 provides low-power, low-voltage configurable logic gate functions. The output state is determined by eight patterns of 3-bit input. The user can choose the logic functions AND, OR, NAND, NOR, XNOR, inverter and buffer. All inputs can be connected to VCC or GND. This device ensures a very low static and dynamic power consumption across the entire VCC range from 2.3 V to 3.6 V. The 74AUP1T57 is designed for logic-level translation applications with input switching levels that accept 1.8 V low-voltage CMOS signals, while operating from either a single 2.5 V or 3.3 V supply voltage. The wide supply voltage range ensures normal operation as battery voltage drops from 3.6 V to 2.3 V. This device is fully specified for partial power-down applications using IOFF. The IOFF circuitry disables the output, preventing the damaging backflow current through the device when it is powered down. Schmitt trigger inputs make the circuit tolerant to slower input rise and fall times across the entire VCC range.   AAL Eindhoven MK
12NC: 9352 804 65115
footprint SOT886
pins: 1 B, 2 GND (power), 3 A, 4 Y (out), 5 VCC (power), 6 C

## 74AUP1T57GN
designator U?, comment Low-power configurable gate with voltage-level translator The 74AUP1T57 provides low-power, low-voltage configurable logic gate functions. The output state is determined by eight patterns of 3-bit input. The user can choose the logic functions AND, OR, NAND, NOR, XNOR, inverter and buffer. All inputs can be connected to VCC or GND. This device ensures a very low static and dynamic power consumption across the entire VCC range from 2.3 V to 3.6 V. The 74AUP1T57 is designed for logic-level translation applications with input switching levels that accept 1.8 V low-voltage CMOS signals, while operating from either a single 2.5 V or 3.3 V supply voltage. The wide supply voltage range ensures normal operation as battery voltage drops from 3.6 V to 2.3 V. This device is fully specified for partial power-down applications using IOFF. The IOFF circuitry disables the output, preventing the damaging backflow current through the device when it is powered down. Schmitt trigger inputs make the circuit tolerant to slower input rise and fall times across the entire VCC range.   AAL Eindhoven MK
I2C: 9352 917 54132
footprint SOT1115
pins: 1 B, 2 GND (power), 3 A, 4 Y (out), 5 VCC (power), 6 C

## 74AUP1T57GS
designator U?, comment Low-power configurable gate with voltage-level translator The 74AUP1T57 provides low-power, low-voltage configurable logic gate functions. The output state is determined by eight patterns of 3-bit input. The user can choose the logic functions AND, OR, NAND, NOR, XNOR, inverter and buffer. All inputs can be connected to VCC or GND. This device ensures a very low static and dynamic power consumption across the entire VCC range from 2.3 V to 3.6 V. The 74AUP1T57 is designed for logic-level translation applications with input switching levels that accept 1.8 V low-voltage CMOS signals, while operating from either a single 2.5 V or 3.3 V supply voltage. The wide supply voltage range ensures normal operation as battery voltage drops from 3.6 V to 2.3 V. This device is fully specified for partial power-down applications using IOFF. The IOFF circuitry disables the output, preventing the damaging backflow current through the device when it is powered down. Schmitt trigger inputs make the circuit tolerant to slower input rise and fall times across the entire VCC range.   AAL Eindhoven MK
12NC: 9352 928 78132
footprint SOT1202
pins: 1 B, 2 GND (power), 3 A, 4 Y (out), 5 VCC (power), 6 C

## 74AUP1T57GW
designator U?, comment Low-power configurable gate with voltage-level translator The 74AUP1T57 provides low-power, low-voltage configurable logic gate functions. The output state is determined by eight patterns of 3-bit input. The user can choose the logic functions AND, OR, NAND, NOR, XNOR, inverter and buffer. All inputs can be connected to VCC or GND. This device ensures a very low static and dynamic power consumption across the entire VCC range from 2.3 V to 3.6 V. The 74AUP1T57 is designed for logic-level translation applications with input switching levels that accept 1.8 V low-voltage CMOS signals, while operating from either a single 2.5 V or 3.3 V supply voltage. The wide supply voltage range ensures normal operation as battery voltage drops from 3.6 V to 2.3 V. This device is fully specified for partial power-down applications using IOFF. The IOFF circuitry disables the output, preventing the damaging backflow current through the device when it is powered down. Schmitt trigger inputs make the circuit tolerant to slower input rise and fall times across the entire VCC range.   AAL Eindhoven MK
12NC: 9352 804 64125
footprint SOT363
pins: 1 B, 2 GND (power), 3 A, 4 Y (out), 5 VCC (power), 6 C

## 74AUP1T58GF
designator U?, comment Low-power configurable multiple function gate The 74AUP1T58 provides low-power, low-voltage configurable logic gate functions. The output state is determined by eight patterns of 3-bit input. The user can choose the logic functions AND, OR, NAND, NOR, XOR, inverter and buffer. All inputs can be connected to VCC or GND. This device ensures a very low static and dynamic power consumption across the entire VCC range from 2.3 V to 3.6 V. The 74AUP1T58 is designed for logic-level translation applications with input switching levels that accept 1.8 V low-voltage CMOS signals, while operating from either a single 2.5 V or 3.3 V supply voltage. The wide supply voltage range ensures normal operation as battery voltage drops from 3.6 V to 2.3 V. This device is fully specified for partial power-down applications using IOFF. The IOFF circuitry disables the output, preventing the damaging backflow current through the device when it is powered down. Schmitt trigger inputs make the circuit tolerant to slower input rise and fall times across the entire VCC range..   AAL Eindhoven MK
12NC: 9352 813 65132
footprint SOT891
pins: 1 B, 2 GND (power), 3 A, 4 Y (out), 5 VCC (power), 6 C